# Altium schematic symbol library 5223002-2 v1.SCHLIB: 1 symbol
Pins are listed as number, name and electrical type; pins without a type are passive.

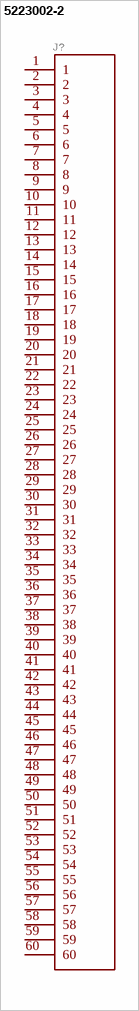
[diagram p0: symbol 5223002-2]

## 5223002-2
designator J?
MANUFACTURER: TE; GateName_1: G$1; SymbolName_1: 5223002-2; LibraryName: 5223002-2 v1; DeviceSetName: 5223002-2; Package: TE_5223002-2; PARTREV: R; STANDARD: Manufacturer Recommendations
footprint TE_5223002-2
pins: 1, 2, 3, 4, 5, 6, 7, 8, 9, 10, 11, 12, 13, 14, 15, 16, 17, 18, 19, 20, 21, 22, 23, 24, 25, 26, 27, 28, 29, 30, 31, 32, 33, 34, 35, 36, 37, 38, 39, 40, 41, 42, 43, 44, 45, 46, 47, 48, 49, 50, 51, 52, 53, 54, 55, 56, 57, 58, 59, 60